# EAGLE library part MC3635 (library AloyseTech-IC)
MC3635 3 axis accelerometer Range, Sampling & Power  ±2, 4, 8, 12 or 16g ranges  8, 10 or 12-bit resolution with FIFO o 14-bit single samples  Sample rate 14 - 1300 samples/sec o Sample trigger via internal oscillator, clock pin or software command  Sniff and Wake modes o 0.4 μA Sniff current @ 6Hz o Separate or combined sniff/wake  Ultra-Low Power with 32 sample FIFO o 0.9 μA typical current @ 25Hz o 1.6 μA typical current @ 50Hz o 2.8 μA typical current @ 100Hz o 36 μA typical current @ 1300Hz
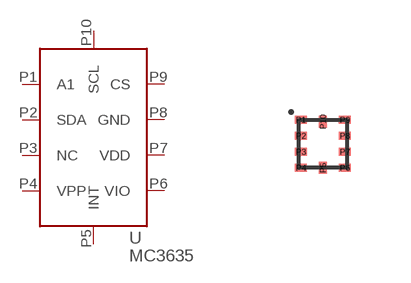
[diagram p3: symbol with the pads of MC3635; footprint MC3635]

Designator prefix -

## MC3635-LGA10  [MC3635]
P1  A1
P2  SDA
P3  NC  nc
P4  VPP
P5  INT
P6  VIO
P7  VDD
P8  GND
P9  CS
P10  SCL

## Footprint MC3635 (pad centres in mm)
smd 0.3 x 0.2: P1 -0.55,0.6; P2 -0.55,0.2; P3 -0.55,-0.2; P4 -0.55,-0.6; P6 0.55,-0.6; P7 0.55,-0.2; P8 0.55,0.2; P9 0.55,0.6
smd 0.2 x 0.3: P5 0,-0.6; P10 0,0.55